# Altium schematic symbol library Header_DC Jack_2.5mm_1.Schlib: 1 symbol
Pins are listed as number, name and electrical type; pins without a type are passive.

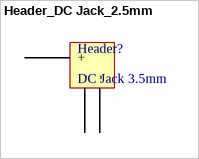
[diagram p0: symbol Header_DC Jack_2.5mm]

## Header_DC Jack_2.5mm
designator Header?, comment DC Jack 3.5mm
footprint Header_3.5mm Jack
pins: 1 + (power), 2 -, 3 -